# Altium schematic symbol library WE-SL2.SchLib: 16 symbols
Pins are listed as number, name and electrical type; pins without a type are passive.

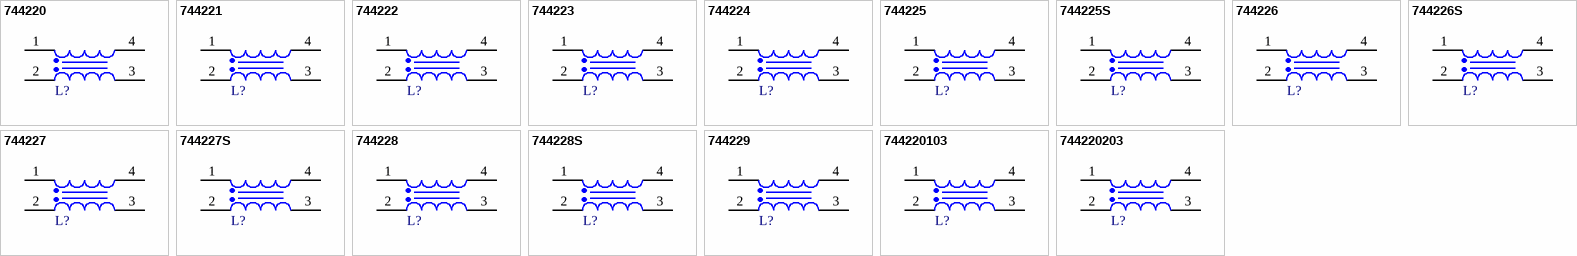
[diagram p0: symbols 744220 to 744220203]

## 744220
designator L?, comment 4700uH  (value not drawn)
WE-SL2 SMT Common Mode Line Filter, 4700uH, 0.5A, 0.75Ohm; Manufacturer: Wurth Elektronik; Manufacturer Part Number: 744220; Impedance Max: 20000Ohm; Number of Windings: 2; Rated Voltage: 80V; Winding Style: bifilar; ComponentLink1Description: Manufacturer Link; ComponentLink1URL: https://www.we-online.com/redexpert/article/744220?ad; ComponentLink2Description: Datasheet; ComponentLink2URL: https://www.we-online.com/redexpert/spec/744220?ad; Category: Common Mode Chokes; Match Code: WE-SL2; Mount: Surface Mount; Operating Temperature Max: 125°C; Operating Temperature Min: -40°C; Packaging: Tape and Reel; Length: 9.2mm; Width: 6mm; Height: 5mm; DC Resistance Max: 0.75Ohm; Inductance: 4700uH; Rated Current: 0.5A
footprint WE-SL2_L9.2W6H5
pins: 1, 2, 3, 4

## 744221
designator L?, comment 2000uH  (value not drawn)
WE-SL2 SMT Common Mode Line Filter, 2000uH, 0.6A, 0.42Ohm; Manufacturer: Wurth Elektronik; Manufacturer Part Number: 744221; Impedance Max: 9200Ohm; Number of Windings: 2; Rated Voltage: 80V; Winding Style: bifilar; ComponentLink1Description: Manufacturer Link; ComponentLink1URL: https://www.we-online.com/redexpert/article/744221?ad; ComponentLink2Description: Datasheet; ComponentLink2URL: https://www.we-online.com/redexpert/spec/744221?ad; Category: Common Mode Chokes; Match Code: WE-SL2; Mount: Surface Mount; Operating Temperature Max: 125°C; Operating Temperature Min: -40°C; Packaging: Tape and Reel; Length: 9.2mm; Width: 6mm; Height: 5mm; DC Resistance Max: 0.42Ohm; Inductance: 2000uH; Rated Current: 0.6A
footprint WE-SL2_L9.2W6H5
pins: 1, 2, 3, 4

## 744222
designator L?, comment 1000uH  (value not drawn)
WE-SL2 SMT Common Mode Line Filter, 1000uH, 0.8A, 0.207Ohm; Manufacturer: Wurth Elektronik; Manufacturer Part Number: 744222; Impedance Max: 6000Ohm; Number of Windings: 2; Rated Voltage: 80V; Winding Style: bifilar; ComponentLink1Description: Manufacturer Link; ComponentLink1URL: https://www.we-online.com/redexpert/article/744222?ad; ComponentLink2Description: Datasheet; ComponentLink2URL: https://www.we-online.com/redexpert/spec/744222?ad; Category: Common Mode Chokes; Match Code: WE-SL2; Mount: Surface Mount; Operating Temperature Max: 125°C; Operating Temperature Min: -40°C; Packaging: Tape and Reel; Length: 9.2mm; Width: 6mm; Height: 5mm; DC Resistance Max: 0.207Ohm; Inductance: 1000uH; Rated Current: 0.8A
footprint WE-SL2_L9.2W6H5
pins: 1, 2, 3, 4

## 744223
designator L?, comment 500uH  (value not drawn)
WE-SL2 SMT Common Mode Line Filter, 500uH, 1A, 0.15Ohm; Manufacturer: Wurth Elektronik; Manufacturer Part Number: 744223; Impedance Max: 3300Ohm; Number of Windings: 2; Rated Voltage: 80V; Winding Style: bifilar; ComponentLink1Description: Manufacturer Link; ComponentLink1URL: https://www.we-online.com/redexpert/article/744223?ad; ComponentLink2Description: Datasheet; ComponentLink2URL: https://www.we-online.com/redexpert/spec/744223?ad; Category: Common Mode Chokes; Match Code: WE-SL2; Mount: Surface Mount; Operating Temperature Max: 125°C; Operating Temperature Min: -40°C; Packaging: Tape and Reel; Length: 9.2mm; Width: 6mm; Height: 5mm; DC Resistance Max: 0.15Ohm; Inductance: 500uH; Rated Current: 1A
footprint WE-SL2_L9.2W6H5
pins: 1, 2, 3, 4

## 744224
designator L?, comment 250uH  (value not drawn)
WE-SL2 SMT Common Mode Line Filter, 250uH, 1.2A, 0.13Ohm; Manufacturer: Wurth Elektronik; Manufacturer Part Number: 744224; Impedance Max: 1800Ohm; Number of Windings: 2; Rated Voltage: 80V; Winding Style: bifilar; ComponentLink1Description: Manufacturer Link; ComponentLink1URL: https://www.we-online.com/redexpert/article/744224?ad; ComponentLink2Description: Datasheet; ComponentLink2URL: https://www.we-online.com/redexpert/spec/744224?ad; Category: Common Mode Chokes; Match Code: WE-SL2; Mount: Surface Mount; Operating Temperature Max: 125°C; Operating Temperature Min: -40°C; Packaging: Tape and Reel; Length: 9.2mm; Width: 6mm; Height: 5mm; DC Resistance Max: 0.13Ohm; Inductance: 250uH; Rated Current: 1.2A
footprint WE-SL2_L9.2W6H5
pins: 1, 2, 3, 4

## 744225
designator L?, comment 40uH  (value not drawn)
WE-SL2 SMT Common Mode Line Filter, 40uH, 0.9A, 0.25Ohm; Manufacturer: Wurth Elektronik; Manufacturer Part Number: 744225; Impedance Max: 3100Ohm; Number of Windings: 2; Rated Voltage: 80V; Winding Style: bifilar; ComponentLink1Description: Manufacturer Link; ComponentLink1URL: https://www.we-online.com/redexpert/article/744225?ad; ComponentLink2Description: Datasheet; ComponentLink2URL: https://www.we-online.com/redexpert/spec/744225?ad; Category: Common Mode Chokes; Match Code: WE-SL2; Mount: Surface Mount; Operating Temperature Max: 125°C; Operating Temperature Min: -40°C; Packaging: Tape and Reel; Length: 9.2mm; Width: 6mm; Height: 5mm; DC Resistance Max: 0.25Ohm; Inductance: 40uH; Rated Current: 0.9A
footprint WE-SL2_L9.2W6H5
pins: 1, 2, 3, 4

## 744225S
designator L?, comment 40uH  (value not drawn)
WE-SL2 SMT Common Mode Line Filter, 40uH, 0.9A, 0.25Ohm; Manufacturer: Wurth Elektronik; Manufacturer Part Number: 744225S; Impedance Max: 3100Ohm; Number of Windings: 2; Rated Voltage: 80V; Winding Style: sectional; ComponentLink1Description: Manufacturer Link; ComponentLink1URL: https://www.we-online.com/redexpert/article/744225S?ad; ComponentLink2Description: Datasheet; ComponentLink2URL: https://www.we-online.com/redexpert/spec/744225S?ad; Category: Common Mode Chokes; Match Code: WE-SL2; Mount: Surface Mount; Operating Temperature Max: 125°C; Operating Temperature Min: -40°C; Packaging: Tape and Reel; Length: 9.2mm; Width: 6mm; Height: 5mm; DC Resistance Max: 0.25Ohm; Inductance: 40uH; Rated Current: 0.9A
footprint WE-SL2_L9.2W6H5
pins: 1, 2, 3, 4

## 744226
designator L?, comment 10uH  (value not drawn)
WE-SL2 SMT Common Mode Line Filter, 10uH, 1.6A, 0.08Ohm; Manufacturer: Wurth Elektronik; Manufacturer Part Number: 744226; Impedance Max: 920Ohm; Number of Windings: 2; Rated Voltage: 80V; Winding Style: bifilar; ComponentLink1Description: Manufacturer Link; ComponentLink1URL: https://www.we-online.com/redexpert/article/744226?ad; ComponentLink2Description: Datasheet; ComponentLink2URL: https://www.we-online.com/redexpert/spec/744226?ad; Category: Common Mode Chokes; Match Code: WE-SL2; Mount: Surface Mount; Operating Temperature Max: 125°C; Operating Temperature Min: -40°C; Packaging: Tape and Reel; Length: 9.2mm; Width: 6mm; Height: 5mm; DC Resistance Max: 0.08Ohm; Inductance: 10uH; Rated Current: 1.6A
footprint WE-SL2_L9.2W6H5
pins: 1, 2, 3, 4

## 744226S
designator L?, comment 10uH  (value not drawn)
WE-SL2 SMT Common Mode Line Filter, 10uH, 1.6A, 0.08Ohm; Manufacturer: Wurth Elektronik; Manufacturer Part Number: 744226S; Impedance Max: 920Ohm; Number of Windings: 2; Rated Voltage: 80V; Winding Style: sectional; ComponentLink1Description: Manufacturer Link; ComponentLink1URL: https://www.we-online.com/redexpert/article/744226S?ad; ComponentLink2Description: Datasheet; ComponentLink2URL: https://www.we-online.com/redexpert/spec/744226S?ad; Category: Common Mode Chokes; Match Code: WE-SL2; Mount: Surface Mount; Operating Temperature Max: 125°C; Operating Temperature Min: -40°C; Packaging: Tape and Reel; Length: 9.2mm; Width: 6mm; Height: 5mm; DC Resistance Max: 0.08Ohm; Inductance: 10uH; Rated Current: 1.6A
footprint WE-SL2_L9.2W6H5
pins: 1, 2, 3, 4

## 744227
designator L?, comment 51uH  (value not drawn)
WE-SL2 SMT Common Mode Line Filter, 51uH, 1A, 0.16Ohm; Manufacturer: Wurth Elektronik; Manufacturer Part Number: 744227; Impedance Max: 5500Ohm; Number of Windings: 2; Rated Voltage: 80V; Winding Style: bifilar; ComponentLink1Description: Manufacturer Link; ComponentLink1URL: https://www.we-online.com/redexpert/article/744227?ad; ComponentLink2Description: Datasheet; ComponentLink2URL: https://www.we-online.com/redexpert/spec/744227?ad; Category: Common Mode Chokes; Match Code: WE-SL2; Mount: Surface Mount; Operating Temperature Max: 125°C; Operating Temperature Min: -40°C; Packaging: Tape and Reel; Length: 9.2mm; Width: 6mm; Height: 5mm; DC Resistance Max: 0.16Ohm; Inductance: 51uH; Rated Current: 1A
footprint WE-SL2_L9.2W6H5
pins: 1, 2, 3, 4

## 744227S
designator L?, comment 51uH  (value not drawn)
WE-SL2 SMT Common Mode Line Filter, 51uH, 1A, 0.16Ohm; Manufacturer: Wurth Elektronik; Manufacturer Part Number: 744227S; Impedance Max: 5500Ohm; Number of Windings: 2; Rated Voltage: 80V; Winding Style: sectional; ComponentLink1Description: Manufacturer Link; ComponentLink1URL: https://www.we-online.com/redexpert/article/744227S?ad; ComponentLink2Description: Datasheet; ComponentLink2URL: https://www.we-online.com/redexpert/spec/744227S?ad; Category: Common Mode Chokes; Match Code: WE-SL2; Mount: Surface Mount; Operating Temperature Max: 125°C; Operating Temperature Min: -40°C; Packaging: Tape and Reel; Length: 9.2mm; Width: 6mm; Height: 5mm; DC Resistance Max: 0.16Ohm; Inductance: 51uH; Rated Current: 1A
footprint WE-SL2_L9.2W6H5
pins: 1, 2, 3, 4

## 744228
designator L?, comment 25uH  (value not drawn)
WE-SL2 SMT Common Mode Line Filter, 25uH, 1A, 0.12Ohm; Manufacturer: Wurth Elektronik; Manufacturer Part Number: 744228; Impedance Max: 2800Ohm; Number of Windings: 2; Rated Voltage: 80V; Winding Style: bifilar; ComponentLink1Description: Manufacturer Link; ComponentLink1URL: https://www.we-online.com/redexpert/article/744228?ad; ComponentLink2Description: Datasheet; ComponentLink2URL: https://www.we-online.com/redexpert/spec/744228?ad; Category: Common Mode Chokes; Match Code: WE-SL2; Mount: Surface Mount; Operating Temperature Max: 125°C; Operating Temperature Min: -40°C; Packaging: Tape and Reel; Length: 9.2mm; Width: 6mm; Height: 5mm; DC Resistance Max: 0.12Ohm; Inductance: 25uH; Rated Current: 1A
footprint WE-SL2_L9.2W6H5
pins: 1, 2, 3, 4

## 744228S
designator L?, comment 25uH  (value not drawn)
WE-SL2 SMT Common Mode Line Filter, 25uH, 1A, 0.12Ohm; Manufacturer: Wurth Elektronik; Manufacturer Part Number: 744228S; Impedance Max: 2800Ohm; Number of Windings: 2; Rated Voltage: 80V; Winding Style: sectional; ComponentLink1Description: Manufacturer Link; ComponentLink1URL: https://www.we-online.com/redexpert/article/744228S?ad; ComponentLink2Description: Datasheet; ComponentLink2URL: https://www.we-online.com/redexpert/spec/744228S?ad; Category: Common Mode Chokes; Match Code: WE-SL2; Mount: Surface Mount; Operating Temperature Max: 125°C; Operating Temperature Min: -40°C; Packaging: Tape and Reel; Length: 9.2mm; Width: 6mm; Height: 5mm; DC Resistance Max: 0.12Ohm; Inductance: 25uH; Rated Current: 1A
footprint WE-SL2_L9.2W6H5
pins: 1, 2, 3, 4

## 744229
designator L?, comment 6500uH  (value not drawn)
WE-SL2 SMT Common Mode Line Filter, 6500uH, 0.4A, 0.95Ohm; Manufacturer: Wurth Elektronik; Manufacturer Part Number: 744229; Impedance Max: 18400Ohm; Number of Windings: 2; Rated Voltage: 80V; Winding Style: bifilar; ComponentLink1Description: Manufacturer Link; ComponentLink1URL: https://www.we-online.com/redexpert/article/744229?ad; ComponentLink2Description: Datasheet; ComponentLink2URL: https://www.we-online.com/redexpert/spec/744229?ad; Category: Common Mode Chokes; Match Code: WE-SL2; Mount: Surface Mount; Operating Temperature Max: 125°C; Operating Temperature Min: -40°C; Packaging: Tape and Reel; Length: 9.2mm; Width: 6mm; Height: 5mm; DC Resistance Max: 0.95Ohm; Inductance: 6500uH; Rated Current: 0.4A
footprint WE-SL2_L9.2W6H5
pins: 1, 2, 3, 4

## 744220103
designator L?, comment 10000uH  (value not drawn)
WE-SL2 SMT Common Mode Line Filter, 10000uH, 0.35A, 1.2Ohm; Manufacturer: Wurth Elektronik; Manufacturer Part Number: 744220103; Impedance Max: 25000Ohm; Number of Windings: 2; Rated Voltage: 80V; Winding Style: bifilar; ComponentLink1Description: Manufacturer Link; ComponentLink1URL: https://www.we-online.com/redexpert/article/744220103?ad; ComponentLink2Description: Datasheet; ComponentLink2URL: https://www.we-online.com/redexpert/spec/744220103?ad; Category: Common Mode Chokes; Match Code: WE-SL2; Mount: Surface Mount; Operating Temperature Max: 125°C; Operating Temperature Min: -40°C; Packaging: Tape and Reel; Length: 9.2mm; Width: 6mm; Height: 5mm; DC Resistance Max: 1.2Ohm; Inductance: 10000uH; Rated Current: 0.35A
footprint WE-SL2_L9.2W6H5
pins: 1, 2, 3, 4

## 744220203
designator L?, comment 20000uH  (value not drawn)
WE-SL2 SMT Common Mode Line Filter, 20000uH, 0.2A, 2.6Ohm; Manufacturer: Wurth Elektronik; Manufacturer Part Number: 744220203; Impedance Max: 50000Ohm; Number of Windings: 2; Rated Voltage: 80V; Winding Style: bifilar; ComponentLink1Description: Manufacturer Link; ComponentLink1URL: https://www.we-online.com/redexpert/article/744220203?ad; ComponentLink2Description: Datasheet; ComponentLink2URL: https://www.we-online.com/redexpert/spec/744220203?ad; Category: Common Mode Chokes; Match Code: WE-SL2; Mount: Surface Mount; Operating Temperature Max: 125°C; Operating Temperature Min: -40°C; Packaging: Tape and Reel; Length: 9.2mm; Width: 6mm; Height: 5mm; DC Resistance Max: 2.6Ohm; Inductance: 20000uH; Rated Current: 0.2A
footprint WE-SL2_L9.2W6H5
pins: 1, 2, 3, 4